# EAGLE library part STM32L052C (library ICs)
ARM Microcontroller, Ultra Low Power, ARM Cortex-M0+, 32bit, 32 MHz, 32 /64KB, 8 KB, 48 Pins
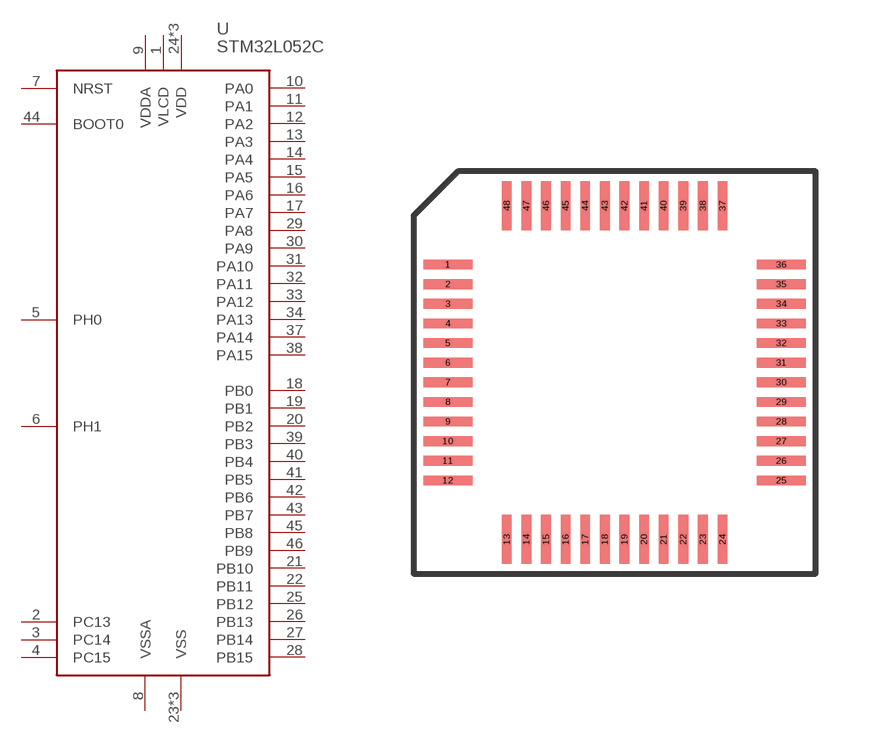
[diagram p148: symbol with the pads of QFP48; footprint QFP48]

Designator prefix U

## STM32L052C8T6 (DIGIKEY: 497-14903-ND; HEIGHT: 1.3; PRICE_PER: 2.83; VALUE: STM32L052C8)  [QFP48]
1  VLCD
2  PC13
3  PC14
4  PC15
5  PH0
6  PH1
7  NRST
8  VSSA
9  VDDA
10  PA0
11  PA1
12  PA2
13  PA3
14  PA4
15  PA5
16  PA6
17  PA7
18  PB0
19  PB1
20  PB2
21  PB10
22  PB11
23  VSS
24  VDD
25  PB12
26  PB13
27  PB14
28  PB15
29  PA8
30  PA9
31  PA10
32  PA11
33  PA12
34  PA13
35  VSS
36  VDD
37  PA14
38  PA15
39  PB3
40  PB4
41  PB5
42  PB6
43  PB7
44  BOOT0
45  PB8
46  PB9
47  VSS
48  VDD

## Footprint QFP48 (pad centres in mm)
smd 1.25 x 0.25: 1 -4.25,2.75; 2 -4.25,2.25; 3 -4.25,1.75; 4 -4.25,1.25; 5 -4.25,0.75; 6 -4.25,0.25; 7 -4.25,-0.25; 8 -4.25,-0.75; 9 -4.25,-1.25; 10 -4.25,-1.75; 11 -4.25,-2.25; 12 -4.25,-2.75; 25 4.25,-2.75; 26 4.25,-2.25; 27 4.25,-1.75; 28 4.25,-1.25; 29 4.25,-0.75; 30 4.25,-0.25; 31 4.25,0.25; 32 4.25,0.75; 33 4.25,1.25; 34 4.25,1.75; 35 4.25,2.25; 36 4.25,2.75
smd 0.25 x 1.25: 13 -2.75,-4.25; 14 -2.25,-4.25; 15 -1.75,-4.25; 16 -1.25,-4.25; 17 -0.75,-4.25; 18 -0.25,-4.25; 19 0.25,-4.25; 20 0.75,-4.25; 21 1.25,-4.25; 22 1.75,-4.25; 23 2.25,-4.25; 24 2.75,-4.25; 37 2.75,4.25; 38 2.25,4.25; 39 1.75,4.25; 40 1.25,4.25; 41 0.75,4.25; 42 0.25,4.25; 43 -0.25,4.25; 44 -0.75,4.25; 45 -1.25,4.25; 46 -1.75,4.25; 47 -2.25,4.25; 48 -2.75,4.25